# Altium schematic symbol library Mixer_sche_lib.SchLib: 1 symbol
Pins are listed as number, name and electrical type; pins without a type are passive.

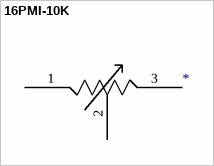
[diagram p0: symbol 16PMI-10K]

## 16PMI-10K
designator ?
footprint 16PMI-10K
pins: 1, 2, 3